# Altium integrated library My_Library_Switching_Regulators.IntLib: 1 symbol
Pins are listed as number, name and electrical type; pins without a type are passive.

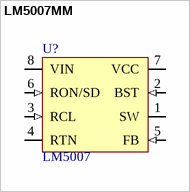
[diagram p0: symbol LM5007MM]

## LM5007MM
designator U?, comment LM5007
High Voltage (80V) Step Down Switching Regulator, 8-pin MSOP; Manufacturer: Texas Instruments; PackageTopMarking: ZXTT*S81B; PowerWise: N; CompType: Switcher; ComponentLink1URL: http://www.ti.com/general/docs/lit/getliterature.tsp?genericPartNumber=LM5007&fileType=pdf; PinCount: 8; RoHS: N; PackageDescription: MINI SOIC, .118 x .118 x .034in, 8 Lead, .0256in Pitch; PackageReference: DGK0008A; Code_JEDEC: MO-187-AA; ComponentLink1Description: Datasheet URL
footprint DGK0008A_L (TSOP, 8-Leads, Body 3.1x3.1mm, Pitch 0.65mm, IPC High Density)
footprint DGK0008A_M (TSOP, 8-Leads, Body 3.1x3.1mm, Pitch 0.65mm, IPC Low Density)
footprint DGK0008A_N (TSOP, 8-Leads, Body 3.1x3.1mm, Pitch 0.65mm, IPC Medium Density)
pins: 1 SW (power), 2 BST (in), 3 RCL (in), 4 RTN (power), 5 FB (in), 6 RON/SD (in), 7 VCC (power), 8 VIN (power)